# EAGLE library part CXD8561 (library psx)
Playstation 1 GPU
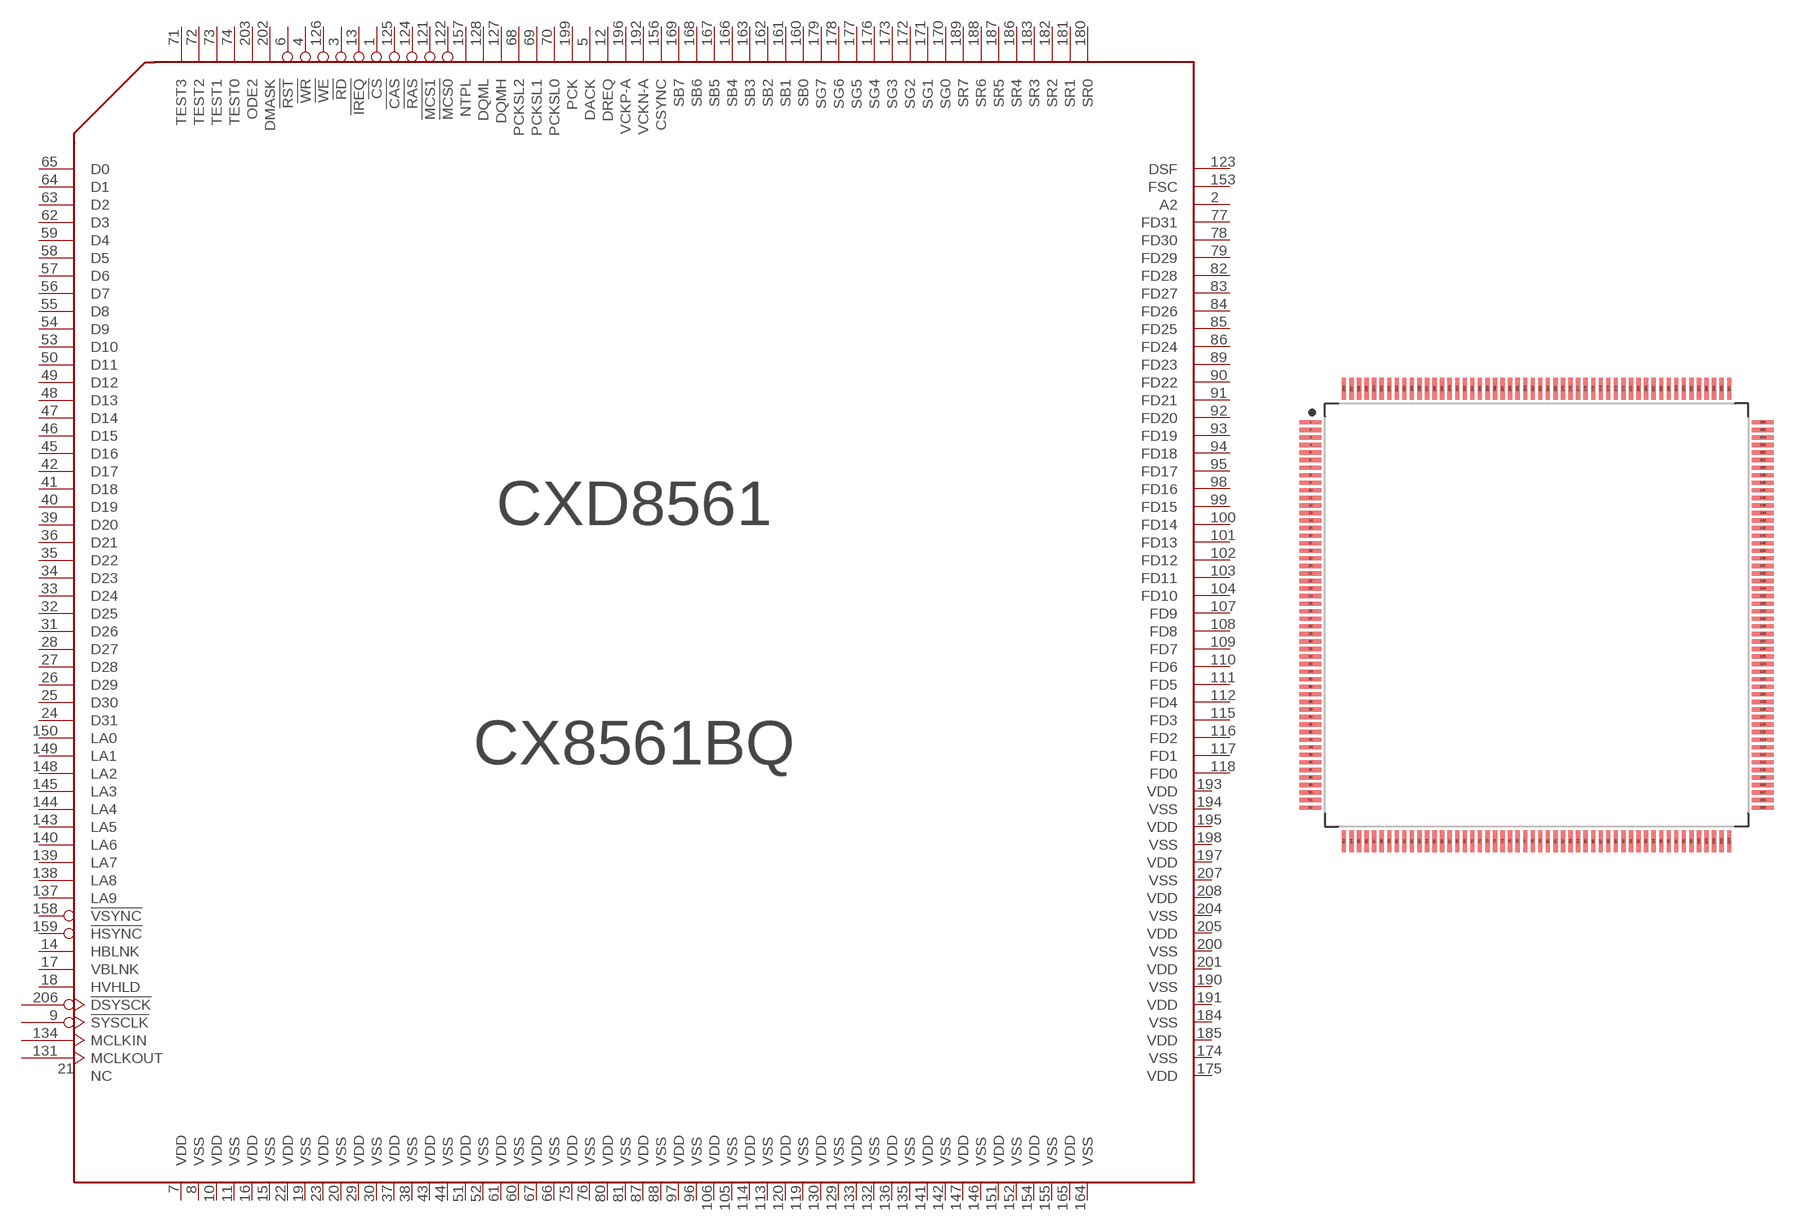
[diagram p1: symbol with the pads of QFP50P3060X3060X410-208; footprint QFP50P3060X3060X410-208]

Designator prefix -

## CXD8561BQ  [QFP50P3060X3060X410-208]
1  !CS  in
2  A2  in
3  !RD  in
4  !WR  in
5  DACK  in
6  !RST  in
7  VDD  pwr
8  VSS  pwr
9  !SYSCLK  in
10  VDD  pwr
11  VSS  pwr
12  DREQ  out
13  !IREQ  out
14  HBLNK  out
15  VSS  pwr
16  VDD  pwr
17  VBLNK  out
18  HVHLD
19  VSS  pwr
20  VSS  pwr
21  NC  nc
22  VDD  pwr
23  VDD  pwr
24  D31
25  D30
26  D29
27  D28
28  D27
29  VDD  pwr
30  VSS  pwr
31  D26
32  D25
33  D24
34  D23
35  D22
36  D21
37  VDD  pwr
38  VSS  pwr
39  D20
40  D19
41  D18
42  D17
43  VDD  pwr
44  VSS  pwr
45  D16
46  D15
47  D14
48  D13
49  D12
50  D11
51  VDD  pwr
52  VSS  pwr
53  D10
54  D9
55  D8
56  D7
57  D6
58  D5
59  D4
60  VSS  pwr
61  VDD  pwr
62  D3
63  D2
64  D1
65  D0
66  VSS  pwr
67  VDD  pwr
68  PCKSL2
69  PCKSL1
70  PCKSL0
71  TEST3
72  TEST2
73  TEST1
74  TEST0
75  VDD  pwr
76  VSS  pwr
77  FD31
78  FD30
79  FD29
80  VDD  pwr
81  VSS  pwr
82  FD28
83  FD27
84  FD26
85  FD25
86  FD24
87  VDD  pwr
88  VSS  pwr
89  FD23
90  FD22
91  FD21
92  FD20
93  FD19
94  FD18
95  FD17
96  VSS  pwr
97  VDD  pwr
98  FD16
99  FD15
100  FD14
101  FD13
102  FD12
103  FD11
104  FD10
105  VSS  pwr
106  VDD  pwr
107  FD9
108  FD8
109  FD7
110  FD6
111  FD5
112  FD4
113  VSS  pwr
114  VDD  pwr
115  FD3
116  FD2
117  FD1
118  FD0
119  VSS  pwr
120  VDD  pwr
121  !MCS1  out
122  !MCS0  out
123  DSF  out
124  !RAS  out
125  !CAS  out
126  !WE  out
127  DQMH  out
128  DQML  out
129  VSS  pwr
130  VDD  pwr
131  MCLKOUT  out
132  VSS  pwr
133  VDD  pwr
134  MCLKIN  out
135  VSS  pwr
136  VDD  pwr
137  LA9  out
138  LA8  out
139  LA7  out
140  LA6  out
141  VDD  pwr
142  VSS  pwr
143  LA5  out
144  LA4  out
145  LA3  out
146  VSS  pwr
147  VDD  pwr
148  LA2  out
149  LA1  out
150  LA0  out
151  VDD  pwr
152  VSS  pwr
153  FSC
154  VDD  pwr
155  VSS  pwr
156  CSYNC  out
157  NTPL  out
158  !VSYNC  out
159  !HSYNC  out
160  SB0  out
161  SB1  out
162  SB2  out
163  SB3  out
164  VSS  pwr
165  VDD  pwr
166  SB4  out
167  SB5  out
168  SB6  out
169  SB7  out
170  SG0  out
171  SG1  out
172  SG2  out
173  SG3  out
174  VSS  pwr
175  VDD  pwr
176  SG4  out
177  SG5  out
178  SG6  out
179  SG7  out
180  SR0  out
181  SR1  out
182  SR2  out
183  SR3  out
184  VSS  pwr
185  VDD  pwr
186  SR4  out
187  SR5  out
188  SR6  out
189  SR7  out
190  VSS  pwr
191  VDD  pwr
192  VCKN-A  in
193  VDD  pwr
194  VSS  pwr
195  VDD  pwr
196  VCKP-A  in
197  VDD  pwr
198  VSS  pwr
199  PCK  out
200  VSS  pwr
201  VDD  pwr
202  DMASK
203  ODE2
204  VSS  pwr
205  VDD  pwr
206  !DSYSCK  in
207  VSS  pwr
208  VDD  pwr

## Footprint QFP50P3060X3060X410-208 (pad centres in mm)
208-QFP, 0.50 mm pitch, 30.60 mm span, 28.00 X 28.00 X 4.10 mm body 208-pin QFP package with 0.50 mm pitch, 30.60 mm lead span1 X 30.60 mm lead span2 with body size 28.00 X 28.00 X 4.10 mm
smd 1.469 x 0.28: 1 -14.971,12.75; 2 -14.971,12.25; 3 -14.971,11.75; 4 -14.971,11.25; 5 -14.971,10.75; 6 -14.971,10.25; 7 -14.971,9.75; 8 -14.971,9.25; 9 -14.971,8.75; 10 -14.971,8.25; 11 -14.971,7.75; 12 -14.971,7.25; 13 -14.971,6.75; 14 -14.971,6.25; 15 -14.971,5.75; 16 -14.971,5.25; 17 -14.971,4.75; 18 -14.971,4.25; 19 -14.971,3.75; 20 -14.971,3.25; 21 -14.971,2.75; 22 -14.971,2.25; 23 -14.971,1.75; 24 -14.971,1.25; 25 -14.971,0.75; 26 -14.971,0.25; 27 -14.971,-0.25; 28 -14.971,-0.75; 29 -14.971,-1.25; 30 -14.971,-1.75; 31 -14.971,-2.25; 32 -14.971,-2.75; 33 -14.971,-3.25; 34 -14.971,-3.75; 35 -14.971,-4.25; 36 -14.971,-4.75; 37 -14.971,-5.25; 38 -14.971,-5.75; 39 -14.971,-6.25; 40 -14.971,-6.75; 41 -14.971,-7.25; 42 -14.971,-7.75; 43 -14.971,-8.25; 44 -14.971,-8.75; 45 -14.971,-9.25; 46 -14.971,-9.75; 47 -14.971,-10.25; 48 -14.971,-10.75; 49 -14.971,-11.25; 50 -14.971,-11.75; 51 -14.971,-12.25; 52 -14.971,-12.75; 105 14.971,-12.75; 106 14.971,-12.25; 107 14.971,-11.75; 108 14.971,-11.25; 109 14.971,-10.75; 110 14.971,-10.25; 111 14.971,-9.75; 112 14.971,-9.25; 113 14.971,-8.75; 114 14.971,-8.25; 115 14.971,-7.75; 116 14.971,-7.25; 117 14.971,-6.75; 118 14.971,-6.25; 119 14.971,-5.75; 120 14.971,-5.25; 121 14.971,-4.75; 122 14.971,-4.25; 123 14.971,-3.75; 124 14.971,-3.25; 125 14.971,-2.75; 126 14.971,-2.25; 127 14.971,-1.75; 128 14.971,-1.25; 129 14.971,-0.75; 130 14.971,-0.25; 131 14.971,0.25; 132 14.971,0.75; 133 14.971,1.25; 134 14.971,1.75; 135 14.971,2.25; 136 14.971,2.75; 137 14.971,3.25; 138 14.971,3.75; 139 14.971,4.25; 140 14.971,4.75; 141 14.971,5.25; 142 14.971,5.75; 143 14.971,6.25; 144 14.971,6.75; 145 14.971,7.25; 146 14.971,7.75; 147 14.971,8.25; 148 14.971,8.75; 149 14.971,9.25; 150 14.971,9.75; 151 14.971,10.25; 152 14.971,10.75; 153 14.971,11.25; 154 14.971,11.75; 155 14.971,12.25; 156 14.971,12.75
smd 0.28 x 1.469: 53 -12.75,-14.971; 54 -12.25,-14.971; 55 -11.75,-14.971; 56 -11.25,-14.971; 57 -10.75,-14.971; 58 -10.25,-14.971; 59 -9.75,-14.971; 60 -9.25,-14.971; 61 -8.75,-14.971; 62 -8.25,-14.971; 63 -7.75,-14.971; 64 -7.25,-14.971; 65 -6.75,-14.971; 66 -6.25,-14.971; 67 -5.75,-14.971; 68 -5.25,-14.971; 69 -4.75,-14.971; 70 -4.25,-14.971; 71 -3.75,-14.971; 72 -3.25,-14.971; 73 -2.75,-14.971; 74 -2.25,-14.971; 75 -1.75,-14.971; 76 -1.25,-14.971; 77 -0.75,-14.971; 78 -0.25,-14.971; 79 0.25,-14.971; 80 0.75,-14.971; 81 1.25,-14.971; 82 1.75,-14.971; 83 2.25,-14.971; 84 2.75,-14.971; 85 3.25,-14.971; 86 3.75,-14.971; 87 4.25,-14.971; 88 4.75,-14.971; 89 5.25,-14.971; 90 5.75,-14.971; 91 6.25,-14.971; 92 6.75,-14.971; 93 7.25,-14.971; 94 7.75,-14.971; 95 8.25,-14.971; 96 8.75,-14.971; 97 9.25,-14.971; 98 9.75,-14.971; 99 10.25,-14.971; 100 10.75,-14.971; 101 11.25,-14.971; 102 11.75,-14.971; 103 12.25,-14.971; 104 12.75,-14.971; 157 12.75,14.971; 158 12.25,14.971; 159 11.75,14.971; 160 11.25,14.971; 161 10.75,14.971; 162 10.25,14.971; 163 9.75,14.971; 164 9.25,14.971; 165 8.75,14.971; 166 8.25,14.971; 167 7.75,14.971; 168 7.25,14.971; 169 6.75,14.971; 170 6.25,14.971; 171 5.75,14.971; 172 5.25,14.971; 173 4.75,14.971; 174 4.25,14.971; 175 3.75,14.971; 176 3.25,14.971; 177 2.75,14.971; 178 2.25,14.971; 179 1.75,14.971; 180 1.25,14.971; 181 0.75,14.971; 182 0.25,14.971; 183 -0.25,14.971; 184 -0.75,14.971; 185 -1.25,14.971; 186 -1.75,14.971; 187 -2.25,14.971; 188 -2.75,14.971; 189 -3.25,14.971; 190 -3.75,14.971; 191 -4.25,14.971; 192 -4.75,14.971; 193 -5.25,14.971; 194 -5.75,14.971; 195 -6.25,14.971; 196 -6.75,14.971; 197 -7.25,14.971; 198 -7.75,14.971; 199 -8.25,14.971; 200 -8.75,14.971; 201 -9.25,14.971; 202 -9.75,14.971; 203 -10.25,14.971; 204 -10.75,14.971; 205 -11.25,14.971; 206 -11.75,14.971; 207 -12.25,14.971; 208 -12.75,14.971